# Altium schematic symbol library LDS3985M33R.SchLib: 1 symbol
Pins are listed as number, name and electrical type; pins without a type are passive.

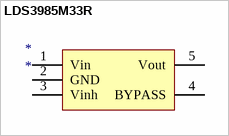
[diagram p0: symbol LDS3985M33R]

## LDS3985M33R
designator *
footprint SOT23-5L
pins: 1 Vin, 2 GND, 3 Vinh, 4 BYPASS, 5 Vout